# Altium integrated library Prj_ArduinoUno_Khanh.IntLib: 25 symbols
Pins are listed as number, name and electrical type; pins without a type are passive.

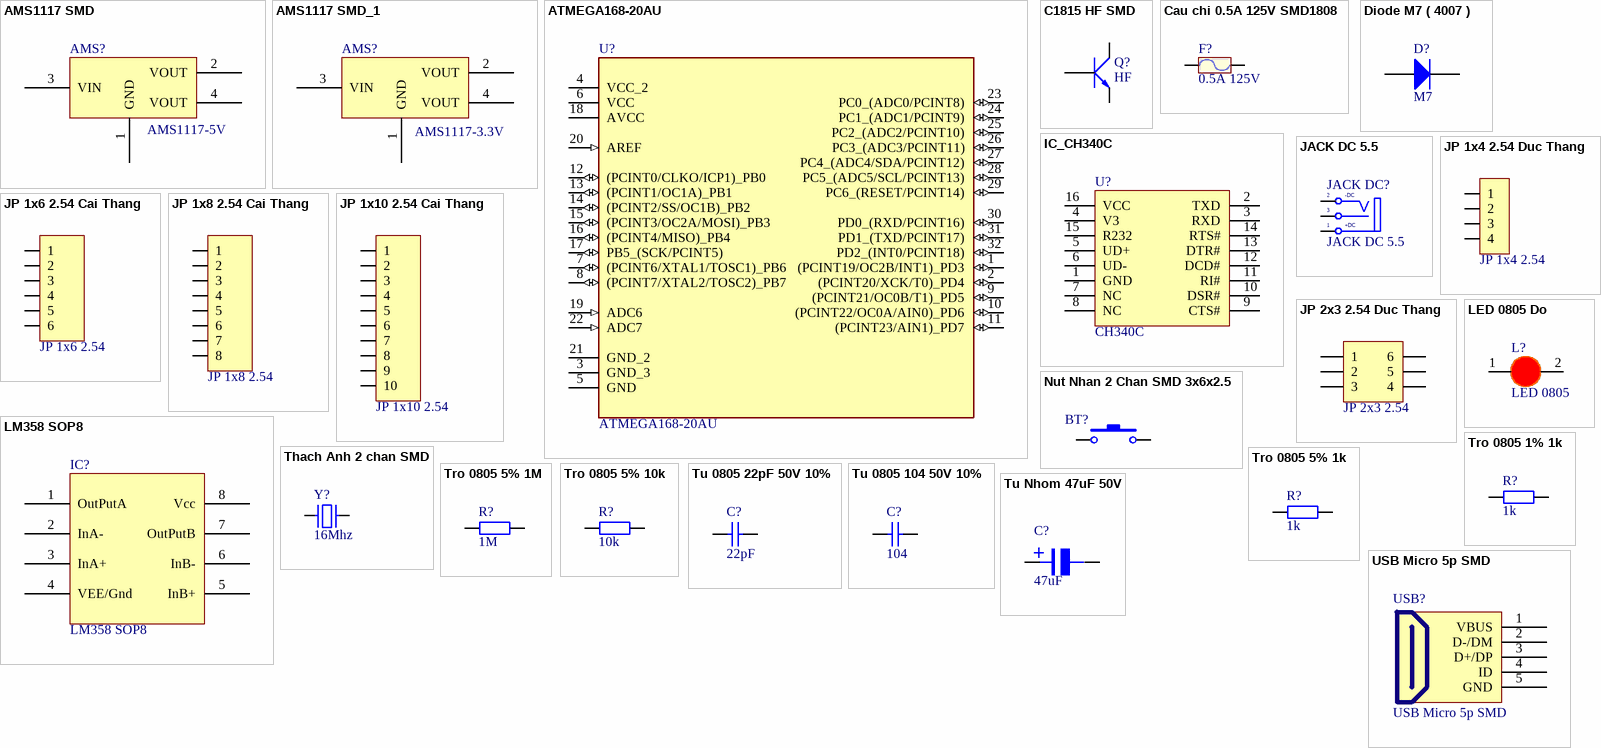
[diagram p0: symbols AMS1117 SMD to USB Micro 5p SMD]

## AMS1117 SMD
designator AMS?, comment AMS1117-5V
Dán; Value: AMS1117-3.3V SOT223; Don_Vi: Con; Ma_Hang: MH000596; Ghi_Chu: *; Kieu_Chan: *; Chung_Loai: Dán
footprint SOT223
pins: 1 GND, 2 VOUT, 3 VIN, 4 VOUT

## AMS1117 SMD_1
designator AMS?, comment AMS1117-3.3V
Dán; Value: AMS1117-3.3V SOT223; Don_Vi: Con; Ma_Hang: MH000596; Ghi_Chu: *; Kieu_Chan: *; Chung_Loai: Dán
footprint SOT223
pins: 1 GND, 2 VOUT, 3 VIN, 4 VOUT

## ATMEGA168-20AU
designator U?
AVR AVRÂ® ATmega Microcontroller IC 8-Bit 20MHz 16KB _8K x 16_ FLASH 32-TQFP _7x7_; MF: Microchip; MP: ATMEGA168-20AU; Availability: Unavailable; Package: TQFP-32 Microchip; Price: None; SnapEDA_Link: https://www.snapeda.com/parts/ATMEGA168-20AU/Microchip/view-part/776709/?ref=snap; Value: *
footprint ATMEGA168
pins: 1 (PCINT19/OC2B/INT1)_PD3 (io), 2 (PCINT20/XCK/T0)_PD4 (io), 3 GND_3, 4 VCC_2 (power), 5 GND, 6 VCC (power), 7 (PCINT6/XTAL1/TOSC1)_PB6 (io), 8 (PCINT7/XTAL2/TOSC2)_PB7 (io), 9 (PCINT21/OC0B/T1)_PD5 (io), 10 (PCINT22/OC0A/AIN0)_PD6 (io), 11 (PCINT23/AIN1)_PD7 (io), 12 (PCINT0/CLKO/ICP1)_PB0 (io), 13 (PCINT1/OC1A)_PB1 (io), 14 (PCINT2/SS/OC1B)_PB2 (io), 15 (PCINT3/OC2A/MOSI)_PB3 (io), 16 (PCINT4/MISO)_PB4 (io), 17 PB5_(SCK/PCINT5) (io), 18 AVCC (power), 19 ADC6 (in), 20 AREF (in), 21 GND_2, 22 ADC7 (in), 23 PC0_(ADC0/PCINT8) (io), 24 PC1_(ADC1/PCINT9) (io), 25 PC2_(ADC2/PCINT10) (io), 26 PC3_(ADC3/PCINT11) (io), 27 PC4_(ADC4/SDA/PCINT12) (io), 28 PC5_(ADC5/SCL/PCINT13) (io), 29 PC6_(RESET/PCINT14) (io), 30 PD0_(RXD/PCINT16) (io), 31 PD1_(TXD/PCINT17) (io), 32 PD2_(INT0/PCINT18) (io)

## C1815 HF SMD
designator Q?, comment HF
NPN transistor; Value: C9014
footprint SOT23
pins: 1 B, 2 E, 3 C

## Cau chi 0.5A 125V SMD1808
designator F?, comment 0.5A 125V
Cau chi 0.5A 125V SMD1808; Ma_Hang: MH009241; Ten: Cầu Chì 0.5A 125V SMD1808 0451.500MRL
footprint Cau Chi SMD1808
pins: 1, 2

## Diode M7 ( 4007 )
designator D?, comment M7
Dán; Don_Vi: Con; Ten_Linh_Kien: Diode M7 1N4007 SMD 1A 1000V; Ma_Hang: MH000944; Chung_Loai: Dán; Ghi_Chu: *
footprint DIODE SMA (SMA)
pins: 1 A, 2 K

## IC_CH340C
designator U?, comment CH340C
USB Bridge, USB to UART USB 2.0 UART Interface; Manufacturer: Olimex; Alternate Part Number-1: NA; Manufacturer Part Number: CH340C; Case/Package: SOIC16; Supplier-1: LCSC; Supplier Part Number-1: C84681
footprint SOIC16_50_284_25X90_SMT
pins: 1 GND, 2 TXD, 3 RXD, 4 V3, 5 UD+, 6 UD-, 7 NC, 8 NC, 9 CTS#, 10 DSR#, 11 RI#, 12 DCD#, 13 DTR#, 14 RTS#, 15 R232, 16 VCC

## JACK DC 5.5
designator JACK DC?
Value: Jac DC
footprint JACK DC 5.5 (Jac DC input)
pins: 1 T "Tip", 2 TN "Tip Normal (Break Contact)", 3 S (power) "Sleeve (Ground)"
text: -DC; +DC

## JP 1x4 2.54 Duc Thang
designator JP?, comment JP 1x4 2.54
Cắm; Ten_Linh_Kien: Jump Đơn Đực 2.54MM 1x40P Thẳng 11MM; Don_Vi: Con; Ma_Hang: MH000903; Ghi_Chu: *; Kieu_Chan: *; Chung_Loai: Cắm
footprint JP 1x4 DT (4 pins, 1 row, straight, gold plating)
pins: 1, 2, 3, 4

## JP 1x6 2.54 Cai Thang
designator JP?, comment JP 1x6 2.54
Cắm; Ten_Linh_Kien: Jump Đơn Cái 2.54MM 1x20P Thẳng; Don_Vi: Con; Ma_Hang: MH004006; Ghi_Chu: *; Kieu_Chan: *; Chung_Loai: Cắm
footprint JP 1x6 CT (6 row, straight, gold plating)
pins: 1, 2, 3, 4, 5, 6

## JP 1x8 2.54 Cai Thang
designator JP?, comment JP 1x8 2.54
Cắm; Ten_Linh_Kien: Jump Đơn Cái 2.54MM 1x20P Thẳng; Don_Vi: Con; Ma_Hang: MH004006; Ghi_Chu: *; Kieu_Chan: *; Chung_Loai: Cắm
footprint JP 1x8 CT (8 row, straight, gold plating)
pins: 1, 2, 3, 4, 5, 6, 7, 8

## JP 1x10 2.54 Cai Thang
designator JP?, comment JP 1x10 2.54
Cắm; Ten_Linh_Kien: Jump Đơn Cái 2.54MM 1x20P Thẳng; Don_Vi: Con; Ma_Hang: MH004006; Ghi_Chu: *; Kieu_Chan: *; Chung_Loai: Cắm
footprint JP 1x10 CT (10 row, straight, gold plating)
pins: 1, 2, 3, 4, 5, 6, 7, 8, 9, 10

## JP 2x3 2.54 Duc Thang
designator JP?, comment JP 2x3 2.54
Cắm; Ten_Linh_Kien: Jump Đôi Đực 2.54MM 2x40P Thẳng 11MM; Don_Vi: Con; Ma_Hang: MH002686; Ghi_Chu: *; Kieu_Chan: *; Chung_Loai: Cắm
footprint JP 2x3 DT
pins: 1, 2, 3, 4, 5, 6

## LED 0805 Do
designator L?, comment LED 0805
Dán; Don_Vi: Con; Ma_Hang: MH000897; Ten_Linh_Kien: LED 0805 Màu Đỏ (Red); Ghi_Chu: *; Kieu_Chan: *; Chung_Loai: Dán
footprint LED-0805-Red
pins: 1 A, 2 K

## LM358 SOP8
designator IC?
Dán; Ma_Hang: MH000609; Don_Vi: Con; Ten_Linh_Kien: LM358 SOP8; Kieu_Chan: *; Ghi_Chu: *; Chung_Loai: Dán
footprint SOP 8
pins: 1 OutPutA, 2 InA-, 3 InA+, 4 VEE/Gnd, 5 InB+, 6 InB-, 7 OutPutB, 8 Vcc

## Nut Nhan 2 Chan SMD 3x6x2.5
designator BT?  (value not drawn)
Ma_Hang: MH001036; Ten: Nút Nhấn 2 Chân 3x6x2.5MM SMD
footprint Nut Nhan 2 Chan SMD 3x6x2.5 (Footprint not found)
pins: 1, 2

## Thach Anh 2 chan SMD
designator Y?, comment 16Mhz
Crystal For all Crystal 2pin.; Value: 4Mhz
footprint Thach Anh 2 chan SMD (SMD Crystal HC49/US-SM package)
pins: 1, 2

## Tro 0805 1% 1k
designator R?, comment 1k
Dán; Don_Vi: Con; So_Chan: 2; Ten_Linh_Kien: Trở 0805 1% 1k; Ma_Hang: MH005468; Chung_Loai: Dán; Kieu_Chan: *
footprint tro smd 0805
pins: 1, 2

## Tro 0805 5% 1k
designator R?, comment 1k
Dán; Don_Vi: Con; So_Chan: 2; Ten_Linh_Kien: Trở 0805 5% 1k; Ma_Hang: MH005234; Chung_Loai: Dán; Kieu_Chan: *
footprint tro smd 0805
pins: 1, 2

## Tro 0805 5% 1M
designator R?, comment 1M
Dán; Don_Vi: Con; So_Chan: 2; Ten_Linh_Kien: Trở 0805 5% 1M; Ma_Hang: MH005235; Chung_Loai: Dán; Kieu_Chan: *
footprint tro smd 0805
pins: 1, 2

## Tro 0805 5% 10k
designator R?, comment 10k
Dán; Don_Vi: Con; So_Chan: 2; Ten_Linh_Kien: Trở 0805 5% 10k; Ma_Hang: MH005239; Chung_Loai: Dán; Kieu_Chan: *
footprint tro smd 0805
pins: 1, 2

## Tu 0805 22pF 50V 10%
designator C?, comment 22pF
Dán; Don_Vi: Con; So_Chan: 2; Ten_Linh_Kien: Tụ 0805 22P 10% 50V; Ma_Hang: MH004560; Chung_Loai: Dán; Kieu_Chan: *
footprint tu 0805 (Compoment SMD 80x50mil)
pins: 1, 2

## Tu 0805 104 50V 10%
designator C?, comment 104
Dán; Don_Vi: Con; So_Chan: 2; Ten_Linh_Kien: Tụ 0805 104-100nF 10% 50V; Ma_Hang: MH004551; Chung_Loai: Dán; Kieu_Chan: *
footprint tu 0805 (Compoment SMD 80x50mil)
pins: 1, 2

## Tu Nhom 47uF 50V
designator C?, comment 47uF
Dán; Don_Vi: Con; So_Chan: 2; Ten_Linh_Kien: Tụ Nhôm 47uF 50V 6.3x5.5MM; Ma_Hang: MH002217; Chung_Loai: Dán; Kieu_Chan: *
footprint tu nhom 6.3 (d)
pins: 1, 2
text: +

## USB Micro 5p SMD
designator USB?
USB Type B; Ten: MicroUSB MK5P SMD; Ma_Hang: MH001020
footprint USB Micro 5p SMD
pins: 1 VBUS, 2 D-/DM, 3 D+/DP, 4 ID, 5 GND